# EAGLE library part TDA7439DS (library SaintGimp)
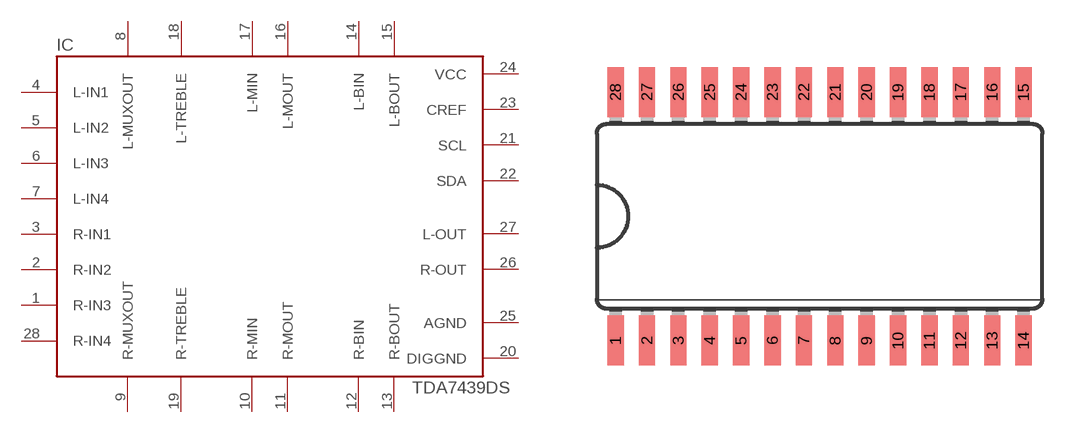
[diagram p18: symbol with the pads of SO-28W; footprint SO-28W]

Designator prefix IC

## TDA7439DS  [SO-28W]
1  R-IN3  pas
2  R-IN2  pas
3  R-IN1  pas
4  L-IN1  pas
5  L-IN2  pas
6  L-IN3  pas
7  L-IN4  pas
8  L-MUXOUT  out
9  R-MUXOUT  out
10  R-MIN  in
11  R-MOUT  out
12  R-BIN  in
13  R-BOUT  out
14  L-BIN  in
15  L-BOUT  out
16  L-MOUT  out
17  L-MIN  in
18  L-TREBLE  out
19  R-TREBLE  out
20  DIGGND  pwr
21  SCL
22  SDA
23  CREF
24  VCC  pwr
25  AGND  pwr
26  R-OUT  out
27  L-OUT  out
28  R-IN4  pas

## Footprint SO-28W (pad centres in mm)
Wide Small Outline package 300 mil
smd 0.66 x 2.032: 1 -8.255,-5.029; 2 -6.985,-5.029; 3 -5.715,-5.029; 4 -4.445,-5.029; 5 -3.175,-5.029; 6 -1.905,-5.029; 7 -0.635,-5.029; 8 0.635,-5.029; 9 1.905,-5.029; 10 3.175,-5.029; 11 4.445,-5.029; 12 5.715,-5.029; 13 6.985,-5.029; 14 8.255,-5.029; 15 8.255,5.029; 16 6.985,5.029; 17 5.715,5.029; 18 4.445,5.029; 19 3.175,5.029; 20 1.905,5.029; 21 0.635,5.029; 22 -0.635,5.029; 23 -1.905,5.029; 24 -3.175,5.029; 25 -4.445,5.029; 26 -5.715,5.029; 27 -6.985,5.029; 28 -8.255,5.029